# Altium footprint library Vishay Sprague Footprints.PcbLib: 143 footprints (part 2 of 9)
Each footprint in its own frame and in the unit in brackets; x right, y up, seen from the top. Pads: shape width x height; smd on the part's side, far side on the other; paste and mask are expansions set on the pad; w line width, h text height; cw(c..) or ccw(c..) is an arc to the next point about the centre after c.
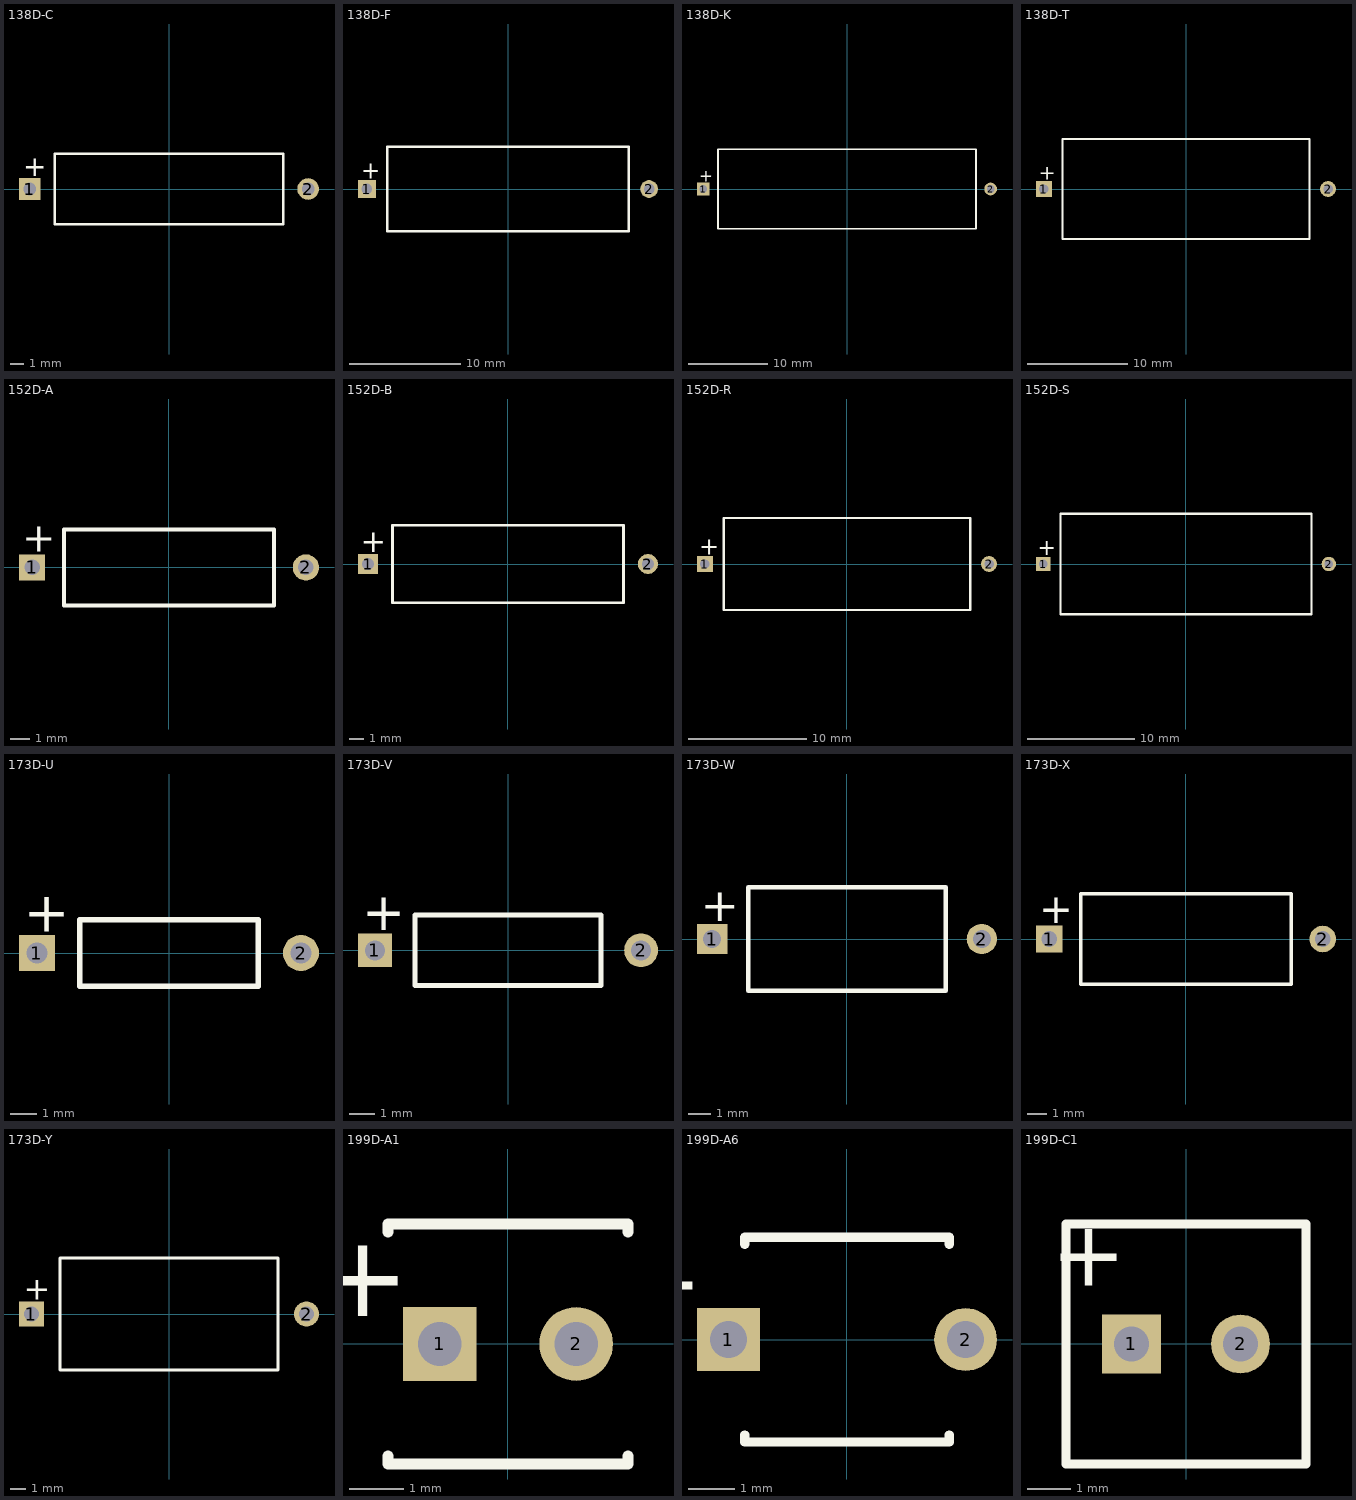
[diagram p1: the footprints below, top view; thin cyan lines are the x and y axes]

## 138D-C [mm] "Capacitor, Axial, Polarised; Body 12.3 x 5.1 mm (LxDia. max), Lead Dia. 0.64 mm (typ)"
height 5.2
pads (2):
  rect 1.6x1.6 hole 0.95: 1(-10.29,0)
  round 1.6 hole 0.95: 2(10.29,0)
Top Overlay:
  lines w0.2: -8.45,-2.6 -8.45,2.6 8.45,2.6 8.45,-2.6 -8.45,-2.6
  text "+" at -10.79,0.925 h1.5

## 138D-F [mm] "Capacitor, Axial, Polarised; Body 17.1 x 7.5 mm (LxDia. max), Lead Dia. 0.64 mm (typ)"
height 7.6
pads (2):
  rect 1.6x1.6 hole 0.95: 1(-12.69,0)
  round 1.6 hole 0.95: 2(12.69,0)
Top Overlay:
  lines w0.2: -10.85,-3.8 -10.85,3.8 10.85,3.8 10.85,-3.8 -10.85,-3.8
  text "+" at -13.19,0.925 h1.5

## 138D-K [mm] "Capacitor, Axial, Polarised; Body 27.8 x 9.9 mm (LxDia. max), Lead Dia. 0.64 mm (typ)"
height 10
pads (2):
  rect 1.6x1.6 hole 0.95: 1(-18.04,0)
  round 1.6 hole 0.95: 2(18.04,0)
Top Overlay:
  lines w0.2: -16.2,-5 -16.2,5 16.2,5 16.2,-5 -16.2,-5
  text "+" at -18.54,0.925 h1.5

## 138D-T [mm] "Capacitor, Axial, Polarised; Body 20.2 x 9.9 mm (LxDia. max), Lead Dia. 0.64 mm (typ)"
height 10
pads (2):
  rect 1.6x1.6 hole 0.95: 1(-14.24,0)
  round 1.6 hole 0.95: 2(14.24,0)
Top Overlay:
  lines w0.2: -12.4,-5 12.4,-5 12.4,5 -12.4,5 -12.4,-5
  text "+" at -14.74,0.925 h1.5

## 152D-A [mm] "Capacitor, Axial, Polarised; Body 8.1 x 3.8 mm (LxDia. max), Lead Dia. 0.51 mm (typ)"
height 3.9
pads (2):
  rect 1.35x1.35 hole 0.8: 1(-7.04,0)
  round 1.35 hole 0.8: 2(7.04,0)
Top Overlay:
  lines w0.2: -5.4,-1.95 -5.4,1.95 5.4,1.95 5.4,-1.95 -5.4,-1.95
  text "+" at -7.54,0.8 h1.5

## 152D-B [mm] "Capacitor, Axial, Polarised; Body 12.8 x 5.1 mm (LxDia. max), Lead Dia. 0.51 mm (typ)"
height 5.2
pads (2):
  rect 1.35x1.35 hole 0.8: 1(-9.39,0)
  round 1.35 hole 0.8: 2(9.39,0)
Top Overlay:
  lines w0.2: -7.75,-2.6 -7.75,2.6 7.75,2.6 7.75,-2.6 -7.75,-2.6
  text "+" at -9.89,0.8 h1.5

## 152D-R [mm] "Capacitor, Axial, Polarised; Body 18.2 x 7.8 mm (LxDia. max), Lead Dia. 0.51 mm (typ)"
height 7.8
pads (2):
  rect 1.35x1.35 hole 0.8: 1(-12.05,0)
  round 1.35 hole 0.8: 2(12.05,0)
Top Overlay:
  lines w0.2: -10.45,-3.9 10.45,-3.9 10.45,3.9 -10.45,3.9 -10.45,-3.9
  text "+" at -12.55,0.8 h1.5

## 152D-S [mm] "Capacitor, Axial, Polarised; Body 20.8 x 9.3 mm (LxDia. max), Lead Dia. 0.51 mm (typ)"
height 9.4
pads (2):
  rect 1.35x1.35 hole 0.8: 1(-13.35,0)
  round 1.35 hole 0.8: 2(13.35,0)
Top Overlay:
  lines w0.2: -11.75,-4.7 11.75,-4.7 11.75,4.7 -11.75,4.7 -11.75,-4.7
  text "+" at -13.85,0.8 h1.5

## 173D-U [mm] "Capacitor, Axial, Polarised; Body 6.6 x 2.4 mm (LxDia. max), Lead Dia. 0.51 mm (typ)"
height 2.5
pads (2):
  rect 1.35x1.35 hole 0.8: 1(-4.95,0)
  round 1.35 hole 0.8: 2(4.95,0)
Top Overlay:
  lines w0.2: -3.35,-1.25 3.35,-1.25 3.35,1.25 -3.35,1.25 -3.35,-1.25
  text "+" at -5.45,0.8 h1.5

## 173D-V [mm] "Capacitor, Axial, Polarised; Body 7.4 x 2.8 mm (LxDia. max), Lead Dia. 0.51 mm (typ)"
height 2.8
pads (2):
  rect 1.35x1.35 hole 0.8: 1(-5.3,0)
  round 1.35 hole 0.8: 2(5.3,0)
Top Overlay:
  lines w0.2: -3.7,-1.4 -3.7,1.4 3.7,1.4 3.7,-1.4 -3.7,-1.4
  text "+" at -5.8,0.8 h1.5

## 173D-W [mm] "Capacitor, Axial, Polarised; Body 8.8 x 4.6 mm (LxDia. max), Lead Dia. 0.51 mm (typ)"
height 4.6
pads (2):
  rect 1.35x1.35 hole 0.8: 1(-6,0)
  round 1.35 hole 0.8: 2(6,0)
Top Overlay:
  lines w0.2: -4.4,-2.3 -4.4,2.3 4.4,2.3 4.4,-2.3 -4.4,-2.3
  text "+" at -6.5,0.8 h1.5

## 173D-X [mm] "Capacitor, Axial, Polarised; Body 10.7 x 4.6 mm (LxDia. max), Lead Dia. 0.51 mm (typ)"
height 4.6
pads (2):
  rect 1.35x1.35 hole 0.8: 1(-6.95,0)
  round 1.35 hole 0.8: 2(6.95,0)
Top Overlay:
  lines w0.2: -5.35,-2.3 -5.35,2.3 5.35,2.3 5.35,-2.3 -5.35,-2.3
  text "+" at -7.45,0.8 h1.5

## 173D-Y [mm] "Capacitor, Axial, Polarised; Body 14 x 7.1 mm (LxDia. max), Lead Dia. 0.64 mm (typ)"
height 7.2
pads (2):
  rect 1.6x1.6 hole 0.95: 1(-8.83,0)
  round 1.6 hole 0.95: 2(8.83,0)
Top Overlay:
  lines w0.2: -7,-3.6 7,-3.6 7,3.6 -7,3.6 -7,-3.6
  text "+" at -9.33,0.925 h1.5

## 199D-A1 [mm] "Capacitor, Tantalum Bead; Body 4.4 x 7.11 mm (Dia.xH max); Pin Spacing 2.5 mm (typ)"
height 7.11
pads (2):
  rect 1.35x1.35 hole 0.8: 1(-1.25,0)
  round 1.35 hole 0.8: 2(1.25,0)
Top Overlay:
  lines w0.2: -2.2,-2.05 -2.2,-2.2 2.2,-2.2 2.2,-2.05 ; -2.2,2.05 -2.2,2.2 2.2,2.2 2.2,2.05
  text "+" at -1.8,1.8 h1.5

## 199D-A6 [mm] "Capacitor, Tantalum Bead; Body 4.4 x 8.64 mm (Dia.xH max); Pin Spacing 5.1 mm (typ)"
height 8.64
pads (2):
  rect 1.35x1.35 hole 0.8: 1(-2.55,0)
  round 1.35 hole 0.8: 2(2.55,0)
Top Overlay:
  lines w0.2: -2.2,-2.05 -2.2,-2.2 2.2,-2.2 2.2,-2.05 ; -2.2,2.05 -2.2,2.2 2.2,2.2 2.2,2.05
  text "+" at -3.1,1.8 h1.5

## 199D-C1 [mm] "Capacitor, Tantalum Bead; Body 5.5 x 9.14 mm (Dia.xH max); Pin Spacing 2.5 mm (typ)"
height 9.14
pads (2):
  rect 1.35x1.35 hole 0.8: 1(-1.25,0)
  round 1.35 hole 0.8: 2(1.25,0)
Top Overlay:
  lines w0.2: -2.75,-2.75 -2.75,2.75 2.75,2.75 2.75,-2.75 -2.75,-2.75
  text "+" at -1.375,2.625 h1.5